# Altium schematic symbol library FPGA Clock.SchLib: 1 symbol
Pins are listed as number, name and electrical type; pins without a type are passive.

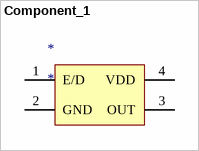
[diagram p0: symbol Component_1]

## Component_1
designator *
pins: 1 E/D, 2 GND, 3 OUT, 4 VDD